# EAGLE library part AFBR-59F1Z (library AFBR-59F1Z)
AFBR-59F1Z 650nm Polymer Optical Fiber Transceiver Library
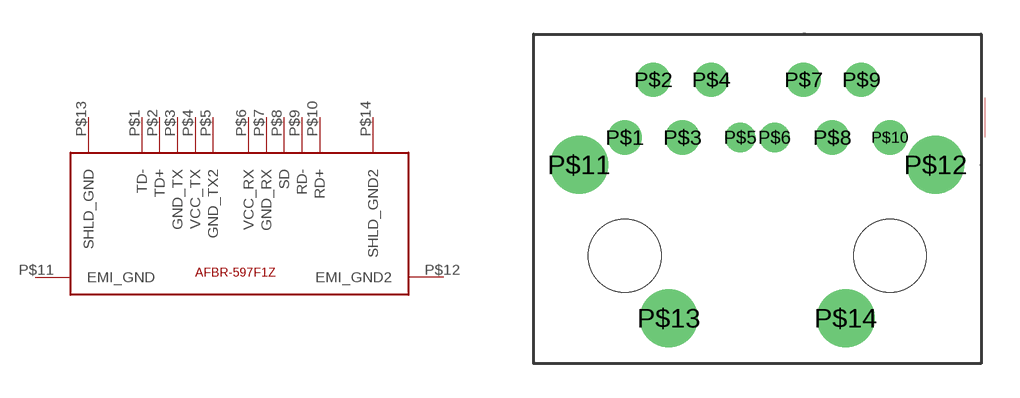
[diagram p0: symbol with the pads of AFBR-59F1Z; footprint AFBR-59F1Z]

Designator prefix -

## AFBR-59F1Z  [AFBR-59F1Z]
P$1  TD-
P$2  TD+
P$3  GND_TX
P$4  VCC_TX
P$5  GND_TX2
P$6  VCC_RX
P$7  GND_RX
P$8  SD
P$9  RD-
P$10  RD+
P$11  EMI_GND
P$12  EMI_GND2
P$13  SHLD_GND
P$14  SHLD_GND2

## Footprint AFBR-59F1Z (pad centres in mm)
drill 0.8 pad 1.5: P$1 0,5.2; P$2 1.26,7.74; P$3 2.54,5.2; P$4 3.8,7.74; P$7 7.86,7.74; P$8 9.12,5.2; P$9 10.4,7.74; P$10 11.66,5.2
drill 0.8 pad 1.3: P$5 5.08,5.2; P$6 6.59,5.2
drill 1.3 pad 2.54: P$11 -2,4; P$12 13.66,4; P$13 1.94,-2.74; P$14 9.72,-2.74
hole 3.2 at 0,0
hole 3.2 at 11.66,0